# Altium footprint library TDK VLF252015MT.PCBLIB: 1 footprints
Each footprint in its own frame and in the unit in brackets; x right, y up, seen from the top. Pads: shape width x height; smd on the part's side, far side on the other; paste and mask are expansions set on the pad; w line width, h text height; cw(c..) or ccw(c..) is an arc to the next point about the centre after c.
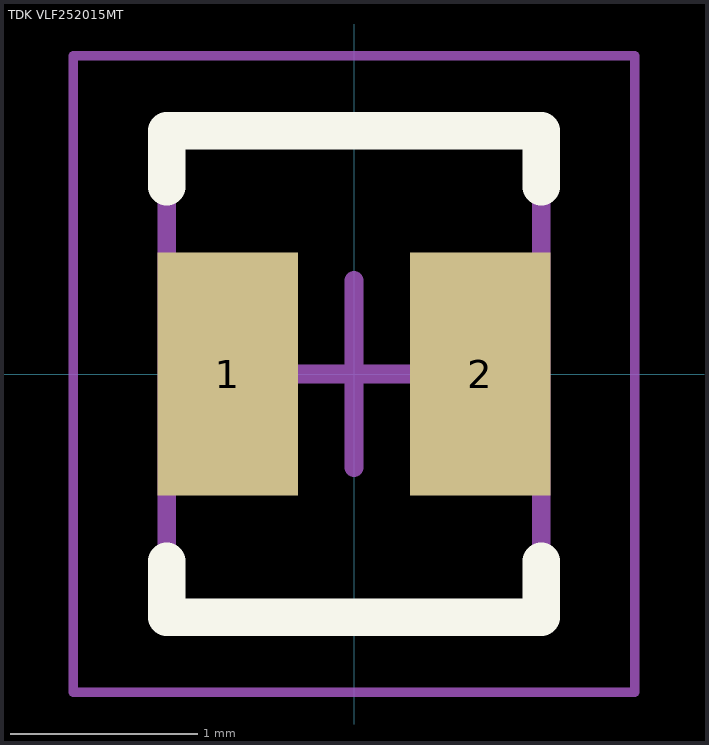
[diagram p0: the footprint, top view; thin cyan lines are the x and y axes]

## TDK VLF252015MT [mm] "Inductor, 2-Leads, Body 2.00x2.50mm, IPC Medium Density"
height 1.5
pads (2):
  rect 0.75x1.3 smd: 1(-0.675,0) 2(0.675,0)
Top Overlay:
  lines w0.2: -1,-1 -1,-1.3 1,-1.3 1,-1 ; -1,1 -1,1.3 1,1.3 1,1
Mechanical 13:
  lines w0.1: -1,-1.3 -1,1.3 1,1.3 1,-1.3 -1,-1.3
Mechanical 15:
  lines w0.05: -1.5,-1.7 -1.5,1.7 1.5,1.7 1.5,-1.7 -1.5,-1.7
  lines w0.1: -0.5,0 0.5,0 ; 0,-0.5 0,0.5
3D body "VLF252015MT.STEP": height 1.5, standoff 0, extent -1,-1.25 1,1.25